# EAGLE library part ATTINY2313 (library mkfab)
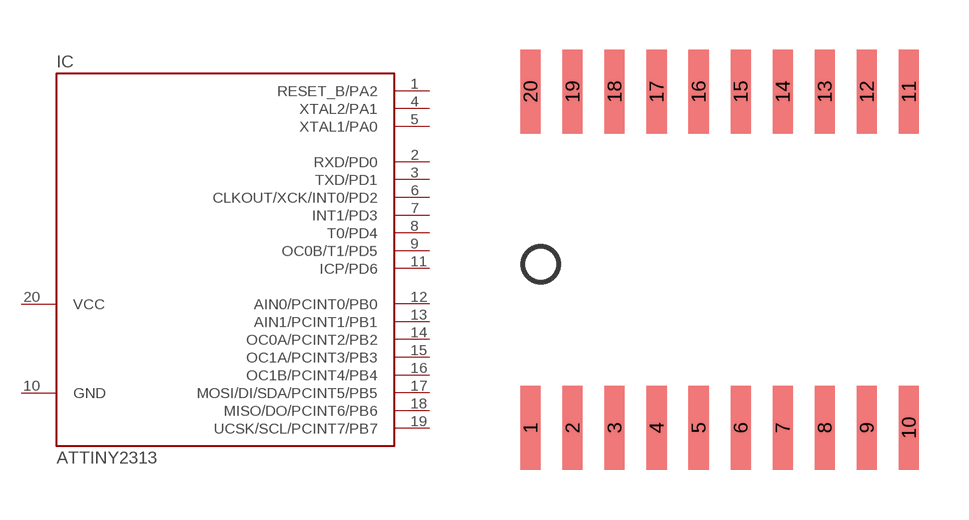
[diagram p4: symbol with the pads of SOIC20; footprint SOIC20]

Designator prefix IC

## ATTINY2313-SSU  [SOIC20]
1  RESET_B/PA2
2  RXD/PD0
3  TXD/PD1
4  XTAL2/PA1
5  XTAL1/PA0
6  CLKOUT/XCK/INT0/PD2
7  INT1/PD3
8  T0/PD4
9  OC0B/T1/PD5
10  GND  pwr
11  ICP/PD6
12  AIN0/PCINT0/PB0
13  AIN1/PCINT1/PB1
14  OC0A/PCINT2/PB2
15  OC1A/PCINT3/PB3
16  OC1B/PCINT4/PB4
17  MOSI/DI/SDA/PCINT5/PB5
18  MISO/DO/PCINT6/PB6
19  UCSK/SCL/PCINT7/PB7
20  VCC  pwr

## Footprint SOIC20 (pad centres in mm)
Small Outline Package
smd 0.61 x 2.54: 1 -5.715,-5.08; 2 -4.445,-5.08; 3 -3.175,-5.08; 4 -1.905,-5.08; 5 -0.635,-5.08; 6 0.635,-5.08; 7 1.905,-5.08; 8 3.175,-5.08; 9 4.445,-5.08; 10 5.715,-5.08; 11 5.715,5.08; 12 4.445,5.08; 13 3.175,5.08; 14 1.905,5.08; 15 0.635,5.08; 16 -0.635,5.08; 17 -1.905,5.08; 18 -3.175,5.08; 19 -4.445,5.08; 20 -5.715,5.08